# Altium schematic symbol library 接口类.SchLib: 26 symbols
Pins are listed as number, name and electrical type; pins without a type are passive.

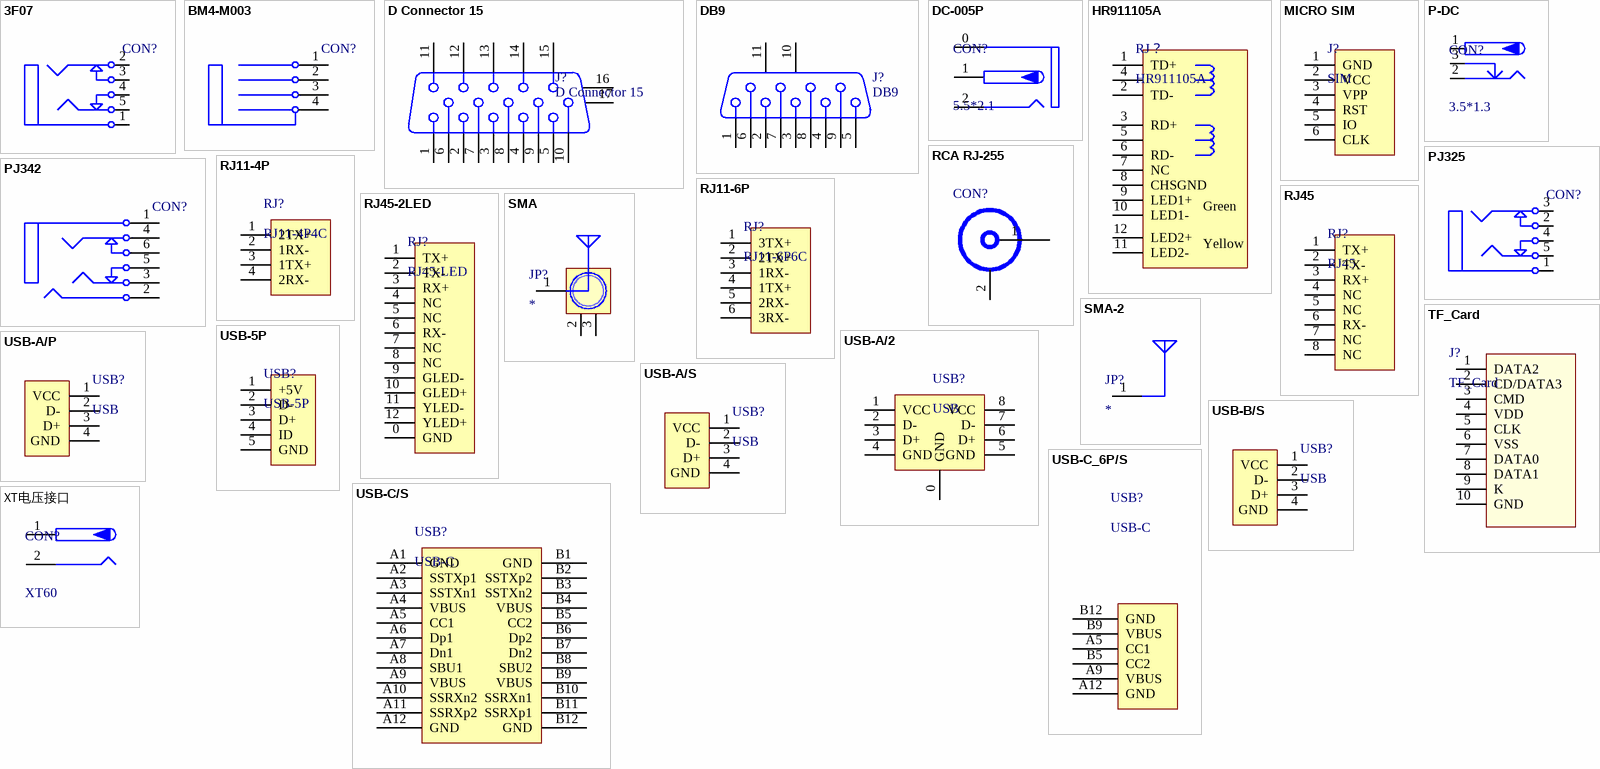
[diagram p0: symbols 3F07 to XT电压接口]

## 3F07
designator CON?, comment 3F07_BK  (value not drawn)
3.5mm耳机插座; BOM名称: 耳机插座; 版权归属: 源创客; 学习资源: www.ooocke.com
footprint 3F07_BK (黑色，14.2*12*5mm)
footprint 3F07_G (绿色，14.2*12*5mm)
footprint 3F07_PK (粉色，14.2*12*5mm)
pins: 1, 2, 3, 4, 5

## BM4-M003
designator CON?  (value not drawn)
宝马头板端弯头; 版权归属: 源创客; BOM名称: 宝马头板端弯头; 学习资源: www.ooocke.com
footprint BM4-M003-BK (宝马头板端弯头（黑色）)
footprint BM4-M003-R (宝马头板端弯头（红色）)
footprint BM4-M003-G (宝马头板端弯头（绿色）)
footprint BM4-M003-B (宝马头板端弯头（蓝色）)
footprint BM4-M003-Y (宝马头板端弯头（黄色）)
pins: 1, 2, 3, 4

## D Connector 15
designator J?
VGA通讯端口; 版权归属: 源创客; 学习资源: www.ooocke.com; BOM名称: VGA通讯端口
footprint VGA15b (15针通讯接口)
footprint VGA15A (15针通讯接口)
pins: 1, 2, 3, 4, 5, 6, 7, 8, 9, 10, 11, 12, 13, 14, 15, 16 MH2, 17 MH1

## DB9
designator J?
9针串口; 版权归属: 源创客; BOM名称: 9针串口; 学习资源: www.ooocke.com
footprint DB9/S_A (9针母头串口,31*18.5*12.5mm)
footprint DB9/P_A (9针公头串口,31*18.5*12.5mm)
pins: 1, 2, 3, 4, 5, 6, 7, 8, 9, 10 MH1, 11 MH2

## DC-005P
designator CON?, comment 5.5*2.1
带屏蔽DC电源接口; 版权归属: 源创客; BOM名称: 带屏蔽DC电源接口; 学习资源: www.ooocke.com
footprint DC-005P (13mm*10mm*10mm(长*宽*高))
pins: 0 (power), 1 (power), 2 (power)

## HR911105A
designator RJ？
带灯以太网接口; 版权归属: 源创客; BOM名称: 带灯以太网接口; 学习资源: www.ooocke.com
footprint RJ-45A12 (网线接口)
pins: 1 TD+, 2 TD-, 3 RD+, 4, 5, 6 RD-, 7 NC, 8 CHSGND, 9 LED1+, 10 LED1-, 11 LED2-, 12 LED2+
text: Green; Yellow

## MICRO SIM
designator J?, comment SIM
SIM卡座; 版权归属: 源创客; BOM名称: SIM卡座; 学习资源: www.ooocke.com
footprint MICRO SIM (16.30mm*14.66mm*1.8mm(长*宽*厚）)
pins: 1 GND, 2 VCC, 3 VPP, 4 RST, 5 IO, 6 CLK

## P-DC
designator CON?, comment 3.5*1.3
低压电源接口; BOM名称: DC电源接口; 版权归属: 源创客; 学习资源: www.ooocke.com
footprint DC-012 (5.5*2.1)
footprint DC-005 (5.5*2.1mm，DC30V,2.5A)
footprint DC-002 (3.5*1.1mm,)
footprint DC-003 (3.5*1.1mm)
footprint DC-003A (3.5*1.1mm)
footprint DC-050 (5.5*2.1)
pins: 1 (power), 2 (power), 3 (power)

## PJ325
designator CON?, comment PJ325_BK  (value not drawn)
3.5mm耳机插座; BOM名称: 耳机插座; 版权归属: 源创客; 学习资源: www.ooocke.com
footprint PJ325_BK (黑色，18*8.1*12.3mm)
footprint PJ325_YE (黄色，18*8.1*12.3mm)
footprint PJ325_G (绿色，18*8.1*12.3mm)
footprint PJ325_B (蓝色，18*8.1*12.3mm)
footprint PJ325_PK (粉色，18*8.1*12.3mm)
pins: 1, 2, 3, 4, 5

## PJ342
designator CON?  (value not drawn)
3.5耳机插座,4Pin; BOM名称: 耳机插座; 版权归属: 源创客; 学习资源: www.ooocke.com
footprint PJ342A (有头)
footprint PJ342B (沉板式，无头)
pins: 1, 2, 3, 4, 5, 6

## RCA RJ-255
designator CON?  (value not drawn)
RCA莲花头AV座; 版权归属: 源创客; BOM名称: RCA莲花头AV座; 学习资源: www.ooocke.com
footprint RCA RJ-255 (RCA莲花头AV接口座)
pins: 1, 2

## RJ11-4P
designator RJ?, comment RJ11-4P4C
电话接口; 版权归属: 源创客; BOM名称: 电话接口; 学习资源: www.ooocke.com
footprint RJ11-4P4C-LI-BK (16.5mm*13.8mm*16.38mm(长*宽*高))
footprint RJ11-4P4C-LI-GY (16.5mm*13.8mm*16.38mm(长*宽*高))
pins: 1 2TX+, 2 1RX-, 3 1TX+, 4 2RX-

## RJ11-6P
designator RJ?, comment RJ11-6P6C
电话接口; 版权归属: 源创客; BOM名称: 电话接口; 学习资源: www.ooocke.com
footprint RJ11-6P6C-GY (Footprint not found)
footprint RJ11-6P6C-BK (15mm*12mm*14.55mm(长*宽*高))
pins: 1 3TX+, 2 2TX+, 3 1RX-, 4 1TX+, 5 2RX-, 6 3RX-

## RJ45
designator RJ?
以太网接口; 版权归属: 源创客; BOM名称: 以太网接口; 学习资源: www.ooocke.com
footprint RJ45-2 (网线接口)
footprint RJ45_180 (网线接口)
pins: 1 TX+, 2 TX-, 3 RX+, 4 NC, 5 NC, 6 RX-, 7 NC, 8 NC

## RJ45-2LED
designator RJ?, comment RJ45-LED
带灯以太网接口; 版权归属: 源创客; BOM名称: 带灯以太网接口; 学习资源: www.ooocke.com
footprint RJ45-2LED (RJ45屏蔽网络插座带LED)
pins: 0 GND, 1 TX+, 2 TX-, 3 RX+, 4 NC, 5 NC, 6 RX-, 7 NC, 8 NC, 9 GLED-, 10 GLED+, 11 YLED-, 12 YLED+

## SMA
designator JP?
SMA-2.4G射频天线接口; 版权归属: 源创客; BOM名称: SMA-2.4G射频天线接口; 学习资源: www.ooocke.com
footprint SMA_FR
pins: 1 ANT, 2 GND, 3 GND

## SMA-2
designator JP?
SMA-板载2.4G射频天线; 版权归属: 源创客; BOM名称: 板载2.4G射频天线; 学习资源: www.ooocke.com
footprint 2.4GANTS9
footprint WIFI-ANT
footprint 2.4GANTF0
footprint 2.4GANTF1
footprint 2.4GANTF2
footprint 2.4GANTF3
footprint 2.4GANTF4
footprint 2.4GANTS0
footprint 2.4GANTS8
footprint 2.4GANTS9
pins: 1 ANT

## TF_Card
designator J?
TF卡座; 版权归属: 源创客; BOM名称: TF卡座; 学习资源: www.ooocke.com
footprint Micro SD
pins: 1 DATA2, 2 CD/DATA3, 3 CMD, 4 VDD, 5 CLK, 6 VSS, 7 DATA0, 8 DATA1, 9 K, 10 GND

## USB-5P
designator USB?
微型USB母座; 版权归属: 源创客; BOM名称: 微型USB母座; 学习资源: www.ooocke.com
footprint USB-MICRO_A (micro型USB ，5.9*8.2*2.5mm)
footprint USB-MICRO_B (micro型USB ，5.7*7.8*2.5mm)
footprint USB-MINI-A (MINI型USB，7.9*7.5*4.1mm)
footprint USB-MICRO_C (micro型USB ，5.7*7.8*2.5mm)
footprint USB-MICRO_D (micro型USB ，6.7*7.5*2.5mm)
footprint USB-MICRO_E (micro型USB ，5.9*8.2*2.5mm)
footprint USB-MICRO_F (micro型USB ，5.9*8.2*2.5mm)
pins: 1 +5V, 2 D-, 3 D+, 4 ID, 5 GND

## USB-A/2
designator USB?, comment USB
USB-A型双层母接口; 版权归属: 源创客; BOM名称: USB-A型双层母接口; 学习资源: www.ooocke.com
footprint USB A/2-14 (双层USB母座高14.2mm)
footprint USB A/2-17 (双层USB母座高16.7mm)
pins: 0 GND, 1 VCC, 2 D-, 3 D+, 4 GND, 5 GND, 6 D+, 7 D-, 8 VCC

## USB-A/P
designator USB?, comment USB
USB-A型公接口; 版权归属: 源创客; BOM名称: USB-A型公接口; 学习资源: www.ooocke.com
footprint USB_A/P_A (A型USB 插头，20*13*4.5mm)
footprint USB_A/P_A (A型USB 插头，20*13*4.5mm)
pins: 1 VCC, 2 D-, 3 D+, 4 GND

## USB-A/S
designator USB?, comment USB
USB-A型母接口; 版权归属: 源创客; BOM名称: USB-A型母接口; 学习资源: www.ooocke.com
footprint USB-A/S_B (A型贴片母头，)
footprint USB-A/S_A (A型直插母头，)
footprint USB-A/S_C (A型贴片母头，)
footprint USB-A/S_D (A型直插母头，)
footprint USB-A/S_E (A型直插母头，)
footprint USB-A/S_F (A型侧插短体无卷边 90度母座)
pins: 1 VCC, 2 D-, 3 D+, 4 GND

## USB-B/S
designator USB?, comment USB
USB-B型母接口; 版权归属: 源创客; BOM名称: USB-B型母接口; 学习资源: www.ooocke.com
footprint USB-B/S_A (b型USB 母座 16.3*13.7*11mm)
pins: 1 VCC, 2 D-, 3 D+, 4 GND

## USB-C/S
designator USB?, comment USB-C
USB-C型母接口; 版权归属: 源创客; BOM名称: USB-C型母接口; 学习资源: www.ooocke.com
footprint USB-C/S_A
footprint USB-C/S_B
pins: A1 GND, A2 SSTXp1, A3 SSTXn1, A4 VBUS, A5 CC1, A6 Dp1, A7 Dn1, A8 SBU1, A9 VBUS, A10 SSRXn2, A11 SSRXp2, A12 GND, B1 GND, B2 SSTXp2, B3 SSTXn2, B4 VBUS, B5 CC2, B6 Dp2, B7 Dn2, B8 SBU2, B9 VBUS, B10 SSRXn1, B11 SSRXp1, B12 GND

## USB-C_6P/S
designator USB?, comment USB-C
USB-C_6P型母接口; BOM名称: USB-C型母接口; 版权归属: 源创客; 学习资源: www.ooocke.com
footprint USB-C/S_C (Type-C 6P母座)
pins: A5 CC1, A9 VBUS, A12 GND, B5 CC2, B9 VBUS, B12 GND

## XT电压接口
designator CON?, comment XT60
XT航模电源接口; 版权归属: 源创客; BOM名称: XT航模电源接口; 学习资源: www.ooocke.com
footprint TX60-LI-P (长：16mm，宽：8.2mm，高：16mm)
footprint TX60-LI-S (长：16mm，宽：8.2mm，高：16mm)
footprint TX60PW-F20 (长：18.8mm， 宽：16mm，高：8.6mm)
footprint TX60PW-M20 (长：18.8mm， 宽：16mm，高：8.6mm)
pins: 1 (power), 2 (power)